# Altium schematic symbol library EL-sense_Battery_Management.SchLib: 8 symbols
Pins are listed as number, name and electrical type; pins without a type are passive.

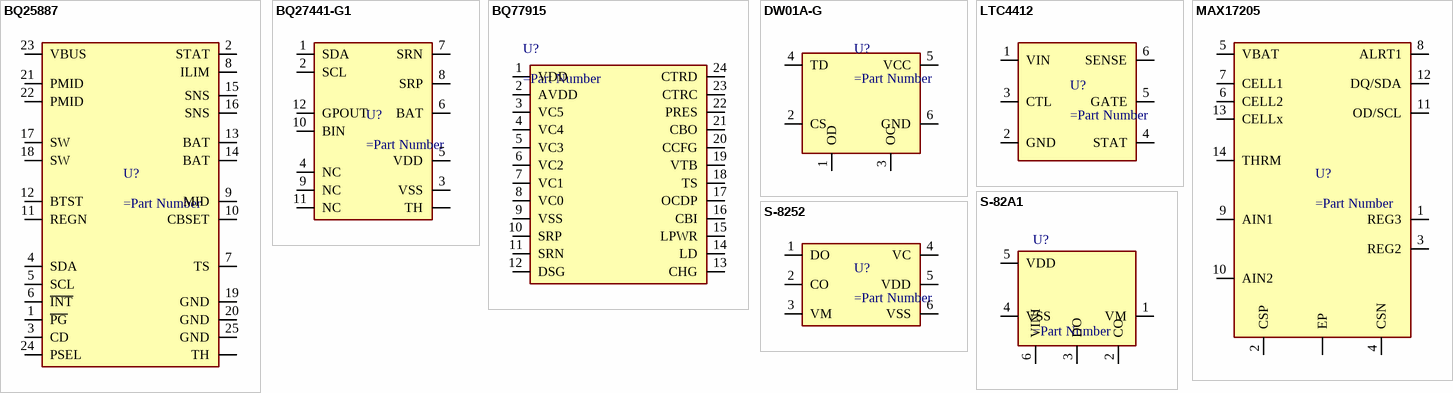
[diagram p0: symbols BQ25887 to S-8252]

## BQ25887
designator U?
pins: 1 ~{PG}, 2 STAT, 3 CD, 4 SDA, 5 SCL, 6 ~{INT}, 7 TS, 8 ILIM, 9 MID, 10 CBSET, 11 REGN, 12 BTST, 13 BAT, 14 BAT, 15 SNS, 16 SNS, 17 SW, 18 SW, 19 GND, 20 GND, 21 PMID, 22 PMID, 23 VBUS, 24 PSEL, 25 GND, TH

## BQ27441-G1
designator U?
pins: 1 SDA, 2 SCL, 3 VSS, 4 NC, 5 VDD, 6 BAT, 7 SRN, 8 SRP, 9 NC, 10 BIN, 11 NC, 12 GPOUT, TH

## BQ77915
designator U?
pins: 1 VDD, 2 AVDD, 3 VC5, 4 VC4, 5 VC3, 6 VC2, 7 VC1, 8 VC0, 9 VSS, 10 SRP, 11 SRN, 12 DSG, 13 CHG, 14 LD, 15 LPWR, 16 CBI, 17 OCDP, 18 TS, 19 VTB, 20 CCFG, 21 CBO, 22 PRES, 23 CTRC, 24 CTRD

## DW01A-G
designator U?
pins: 1 OD, 2 CS, 3 OC, 4 TD, 5 VCC, 6 GND

## LTC4412
designator U?
pins: 1 VIN, 2 GND, 3 CTL, 4 STAT, 5 GATE, 6 SENSE

## MAX17205
designator U?
pins: 1 REG3, 2 CSP, 3 REG2, 4 CSN, 5 VBAT, 6 CELL2, 7 CELL1, 8 ALRT1, 9 AIN1, 10 AIN2, 11 OD/SCL, 12 DQ/SDA, 13 CELLx, 14 THRM, EP

## S-82A1
designator U?
pins: 1 VM, 2 CO, 3 DO, 4 VSS, 5 VDD, 6 VINI

## S-8252
designator U?
pins: 1 DO, 2 CO, 3 VM, 4 VC, 5 VDD, 6 VSS